# Altium footprint library MCU.PcbLib: 7 footprints
Each footprint in its own frame and in the unit in brackets; x right, y up, seen from the top. Pads: shape width x height; smd on the part's side, far side on the other; paste and mask are expansions set on the pad; w line width, h text height; cw(c..) or ccw(c..) is an arc to the next point about the centre after c.
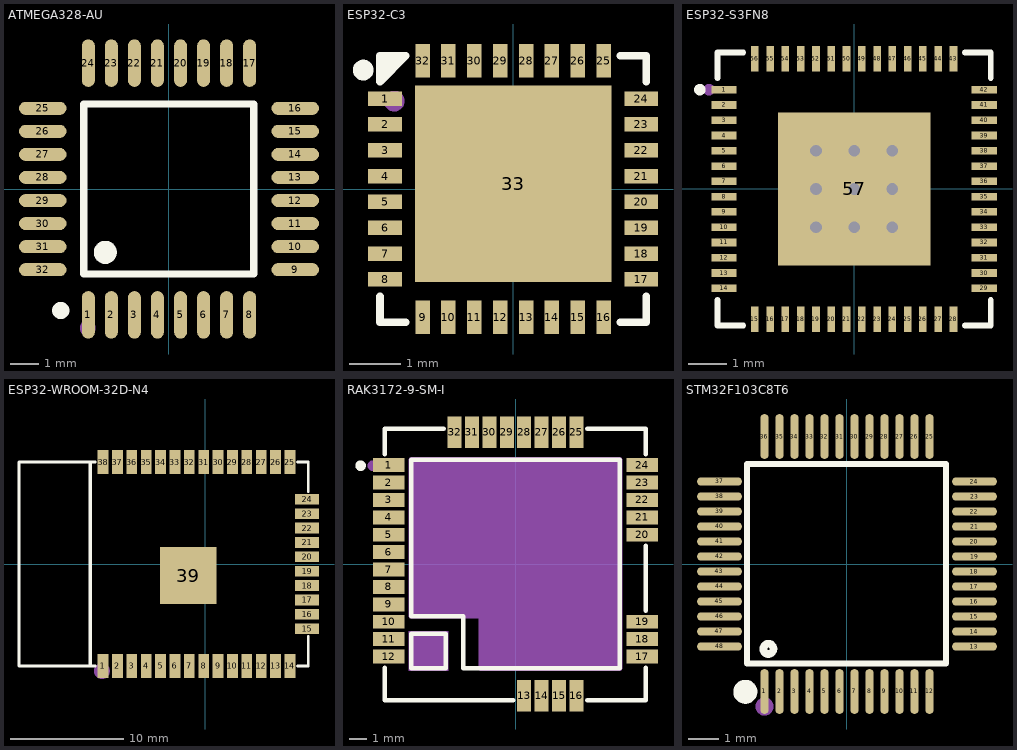
[diagram p0: the footprints below, top view; thin cyan lines are the x and y axes]

## ATMEGA328-AU [mm]
pads (32):
  oval 0.45x1.65 smd paste+0 mask+0.051: 1(-2.8,-4.369) 2(-2,-4.369) 3(-1.2,-4.369) 4(-0.4,-4.369) 5(0.4,-4.369) 6(1.2,-4.369) 7(2,-4.369) 8(2.8,-4.369) 17(2.8,4.369) 18(2,4.369) 19(1.2,4.369) 20(0.4,4.369) 21(-0.4,4.369) 22(-1.2,4.369) 23(-2,4.369) 24(-2.8,4.369)
  oval 1.65x0.45 smd paste+0 mask+0.051: 9(4.382,-2.8) 10(4.382,-2) 11(4.382,-1.2) 12(4.382,-0.4) 13(4.382,0.4) 14(4.382,1.2) 15(4.382,2) 16(4.382,2.8) 25(-4.381,2.8) 26(-4.381,2) 27(-4.381,1.2) 28(-4.381,0.4) 29(-4.381,-0.4) 30(-4.381,-1.2) 31(-4.381,-2) 32(-4.381,-2.8)
Top Overlay:
  lines w0.254: -2.963,-2.95 2.937,-2.95 2.937,2.95 -2.963,2.95 -2.963,-2.95
  lines w0.3: -3.759,-4.064 ccw(c-3.758,-4.214) -3.757,-4.064
  lines w0.4: -2.212,-1.999 ccw(c-2.211,-2.199) -2.21,-1.999
Mechanical 15:
  circle w0.254: c-2.819,-4.826 r0.127
  lines w0.254: -2.967,-4.826 ccw(c-2.819,-4.826) -2.671,-4.826 ccw(c-2.819,-4.826) -2.967,-4.826
3D body "CQFP80P900X900X120-32M.step": height 1.05, standoff 0, extent -4.5,-4.5 4.5,4.5

## ES8388 [mm] "Low Power Stereo Audio CODEC With Headphone Amplifier"

## ESP32-C3 [mm]
pads (33):
  rect 0.65x0.28 smd paste-100 mask+0.051: 1(-2.478,1.75) 2(-2.478,1.25) 3(-2.478,0.75) 4(-2.478,0.25) 5(-2.478,-0.25) 6(-2.478,-0.75) 7(-2.478,-1.25) 8(-2.478,-1.75) 17(2.478,-1.75) 18(2.478,-1.25) 19(2.478,-0.75) 20(2.478,-0.25) 21(2.478,0.25) 22(2.478,0.75) 23(2.478,1.25) 24(2.478,1.75)
  rect 0.28x0.65 smd paste-100 mask+0.051: 9(-1.75,-2.478) 10(-1.25,-2.478) 11(-0.75,-2.478) 12(-0.25,-2.478) 13(0.25,-2.478) 14(0.75,-2.478) 15(1.25,-2.478) 16(1.75,-2.478) 25(1.75,2.478) 26(1.25,2.478) 27(0.75,2.478) 28(0.25,2.478) 29(-0.25,2.478) 30(-0.75,2.478) 31(-1.25,2.478) 32(-1.75,2.478)
  rect 3.8x3.8 smd paste-100 mask+0.051: 33(0,0.102)
Top Overlay:
  circle w0.2: c-2.9,2.3 r0.1
  region: -2.1,2.576 -2.1,2.557 -2.576,2.08 -2.576,2.5
  lines w0.152: -2.576,-2.08 -2.576,-2.576 -2.08,-2.576 ; 2.08,-2.576 2.576,-2.576 2.576,-2.08 ; 2.08,2.576 2.576,2.576 2.576,2.08 ; -2.576,2.08 -2.576,2.576 -2.08,2.576 -2.576,2.08
Top Paste:
  region: -1.89,2.802 -1.61,2.802 -1.61,2.152 -1.89,2.152
  region: -1.39,2.802 -1.11,2.802 -1.11,2.152 -1.39,2.152
  region: -0.89,2.802 -0.61,2.802 -0.61,2.152 -0.89,2.152
  region: -0.39,2.802 -0.11,2.802 -0.11,2.152 -0.39,2.152
  region: 0.11,2.802 0.39,2.802 0.39,2.152 0.11,2.152
  region: 0.61,2.802 0.89,2.802 0.89,2.152 0.61,2.152
  region: 1.11,2.802 1.39,2.802 1.39,2.152 1.11,2.152
  region: 1.61,2.802 1.89,2.802 1.89,2.152 1.61,2.152
  region: 2.152,1.89 2.802,1.89 2.802,1.61 2.152,1.61
  region: 2.152,1.39 2.802,1.39 2.802,1.11 2.152,1.11
  region: 2.152,0.89 2.802,0.89 2.802,0.61 2.152,0.61
  region: 2.152,0.39 2.802,0.39 2.802,0.11 2.152,0.11
  region: 2.152,-0.11 2.802,-0.11 2.802,-0.39 2.152,-0.39
  region: 2.152,-0.61 2.802,-0.61 2.802,-0.89 2.152,-0.89
  region: 2.152,-1.11 2.802,-1.11 2.802,-1.39 2.152,-1.39
  region: 2.152,-1.61 2.802,-1.61 2.802,-1.89 2.152,-1.89
  region: 1.61,-2.152 1.89,-2.152 1.89,-2.802 1.61,-2.802
  region: 1.11,-2.152 1.39,-2.152 1.39,-2.802 1.11,-2.802
  region: 0.61,-2.152 0.89,-2.152 0.89,-2.802 0.61,-2.802
  region: 0.11,-2.152 0.39,-2.152 0.39,-2.802 0.11,-2.802
  region: -0.39,-2.152 -0.11,-2.152 -0.11,-2.802 -0.39,-2.802
  region: -0.89,-2.152 -0.61,-2.152 -0.61,-2.802 -0.89,-2.802
  region: -1.39,-2.152 -1.11,-2.152 -1.11,-2.802 -1.39,-2.802
  region: -1.89,-2.152 -1.61,-2.152 -1.61,-2.802 -1.89,-2.802
  region: -2.802,-1.61 -2.152,-1.61 -2.152,-1.89 -2.802,-1.89
  region: -2.802,-1.11 -2.152,-1.11 -2.152,-1.39 -2.802,-1.39
  region: -2.802,-0.61 -2.152,-0.61 -2.152,-0.89 -2.802,-0.89
  region: -2.802,-0.11 -2.152,-0.11 -2.152,-0.39 -2.802,-0.39
  region: -2.802,0.39 -2.152,0.39 -2.152,0.11 -2.802,0.11
  region: -2.802,0.89 -2.152,0.89 -2.152,0.61 -2.802,0.61
  region: -2.802,1.39 -2.152,1.39 -2.152,1.11 -2.802,1.11
  region: -2.802,1.89 -2.152,1.89 -2.152,1.61 -2.802,1.61
  region: -1.52,1.52 1.52,1.52 1.52,-1.52 -1.52,-1.52
Mechanical 15:
  circle w0.2: c-2.3,1.7 r0.1
3D body "QFN32 5x5.step": height 1.06, standoff 0, extent -2.51,-2.51 2.51,2.51

## ESP32-S3FN8 [mm]
pads (57):
  rect 0.665x0.2 smd paste-100 mask+0.051: 1(-3.408,2.6) 2(-3.408,2.2) 3(-3.408,1.8) 4(-3.408,1.4) 5(-3.408,1) 6(-3.408,0.6) 7(-3.408,0.2) 8(-3.408,-0.2) 9(-3.408,-0.6) 10(-3.408,-1) 11(-3.408,-1.4) 12(-3.408,-1.8) 13(-3.408,-2.2) 14(-3.408,-2.6) 29(3.408,-2.6) 30(3.408,-2.2) 31(3.408,-1.8) 32(3.408,-1.4) 33(3.408,-1) 34(3.408,-0.6) 35(3.408,-0.2) 36(3.408,0.2) 37(3.408,0.6) 38(3.408,1) 39(3.408,1.4) 40(3.408,1.8) 41(3.408,2.2) 42(3.408,2.6)
  rect 0.2x0.665 smd paste-100 mask+0.051: 15(-2.6,-3.408) 16(-2.2,-3.408) 17(-1.8,-3.408) 18(-1.4,-3.408) 19(-1,-3.408) 20(-0.6,-3.408) 21(-0.2,-3.408) 22(0.2,-3.408) 23(0.6,-3.408) 24(1,-3.408) 25(1.4,-3.408) 26(1.8,-3.408) 27(2.2,-3.408) 28(2.6,-3.408) 43(2.6,3.408) 44(2.2,3.408) 45(1.8,3.408) 46(1.4,3.408) 47(1,3.408) 48(0.6,3.408) 49(0.2,3.408) 50(-0.2,3.408) 51(-0.6,3.408) 52(-1,3.408) 53(-1.4,3.408) 54(-1.8,3.408) 55(-2.2,3.408) 56(-2.6,3.408)
  rect 4x4 smd paste-100 mask+0.051: 57(0,0)
via 0,1 diameter 0.61 hole 0.305
via 0.001,-1 diameter 0.61 hole 0.305
via 0,0 diameter 0.61 hole 0.305
via -1,-1 diameter 0.61 hole 0.305
via 1,-1 diameter 0.61 hole 0.305
via -1,1 diameter 0.61 hole 0.305
via -1,0 diameter 0.61 hole 0.305
via 1,1 diameter 0.61 hole 0.305
via 1,0 diameter 0.61 hole 0.305
Top Overlay:
  circle w0.15: c-4.04,2.6 r0.075
  lines w0.152: -3.576,-2.903 -3.576,-3.576 -2.903,-3.576 ; -3.576,2.903 -3.576,3.576 -2.903,3.576 ; 2.903,-3.576 3.576,-3.576 3.576,-2.903 ; 2.903,3.576 3.576,3.576 3.576,2.903
Top Paste:
  drawing of 57 lines, arcs and shapes, not listed
Mechanical 15:
  circle w0.15: c-3.8,2.6 r0.075
3D body "ESP32-S3FN8--3DModel-STEP-56544.STEP": height 0.9, standoff 0, extent -3.495,-3.5 3.505,3.5

## ESP32-WROOM-32D-N4 [mm]
pads (39):
  rect 0.95x2.1 smd paste+0 mask+0.051: 1(-9.015,-9) 2(-7.745,-9) 3(-6.475,-9) 4(-5.205,-9) 5(-3.935,-9) 6(-2.665,-9) 7(-1.395,-9) 8(-0.125,-9) 9(1.145,-9) 10(2.415,-9) 11(3.685,-9) 12(4.955,-9) 13(6.225,-9) 14(7.495,-9) 25(7.495,9) 26(6.225,9) 27(4.955,9) 28(3.685,9) 29(2.415,9) 30(1.145,9) 31(-0.125,9) 32(-1.395,9) 33(-2.665,9) 34(-3.935,9) 35(-5.205,9) 36(-6.475,9) 37(-7.745,9) 38(-9.015,9)
  rect 2.1x0.95 smd paste+0 mask+0.051: 15(9.015,-5.715) 16(9.015,-4.445) 17(9.015,-3.175) 18(9.015,-1.905) 19(9.015,-0.635) 20(9.015,0.635) 21(9.015,1.905) 22(9.015,3.175) 23(9.015,4.445) 24(9.015,5.715)
  rect 5x5 smd paste+0 mask+0.051: 39(-1.472,-1.017)
Top Overlay:
  lines w0.254: -9.696,-9.017 -10.158,-9.017 -10.158,9.017 -9.696,9.017 ; 8.176,-9.017 9.121,-9.017 9.121,-6.396 ; 8.176,9.017 9.121,9.017 9.121,6.396 ; -16.435,-9 -16.435,9 -10.135,9 -10.135,-9 -16.435,-9
Mechanical 15:
  circle w0.7: c-9.114,-9.45 r0.35
3D body "esp32_wroom_32D_module.step": height 3.9, standoff 0, extent -16.483,-9.05 9.067,9.05

## RAK3172-9-SM-I [mm]
pads (32):
  rect 1.8x0.8 smd paste+0 mask+0.051: 1(-7.287,5.68) 2(-7.287,4.68) 3(-7.287,3.68) 4(-7.287,2.68) 5(-7.287,1.68) 6(-7.287,0.68) 7(-7.287,-0.32) 8(-7.287,-1.32) 9(-7.287,-2.32) 10(-7.287,-3.32) 11(-7.287,-4.32) 12(-7.287,-5.32) 17(7.287,-5.32) 18(7.287,-4.32) 19(7.287,-3.32) 20(7.287,1.68) 21(7.287,2.68) 22(7.287,3.68) 23(7.287,4.68) 24(7.287,5.68)
  rect 0.8x1.8 smd paste+0 mask+0.051: 13(0.5,-7.569) 14(1.5,-7.569) 15(2.5,-7.569) 16(3.5,-7.569) 25(3.5,7.569) 26(2.5,7.569) 27(1.5,7.569) 28(0.5,7.569) 29(-0.5,7.569) 30(-1.5,7.569) 31(-2.5,7.569) 32(-3.5,7.569)
Top Overlay:
  circle w0.3: c-8.9,5.65 r0.15
  lines w0.254: -7.512,-5.951 -7.512,-7.82 -0.131,-7.82 ; -7.512,6.311 -7.512,7.78 -4.131,7.78 ; 4.131,-7.82 7.488,-7.82 7.488,-5.951 ; 4.131,7.78 7.488,7.78 7.488,6.311 ; 7.488,-2.689 7.488,1.049 ; -6,-6 -4,-6 -4,-4 -6,-4 -6,-6 ; -5.999,-2.999 -3,-2.999 -3,-6.001 5.999,-6.001 5.999,6 -5.999,6 -5.999,5 -5.999,-2.999
Mechanical 15:
  circle w0.3: c-8.2,5.65 r0.15
  region: 6.126,-6.001 6.126,-6.026 6.107,-6.073 6.071,-6.109 6.025,-6.128 5.999,-6.128 -1.999,-6.128 -2.024,-6.128 -2.071,-6.109 -2.107,-6.073 -2.126,-6.026 -2.126,-6.001 -2.126,-3.126 -5.999,-3.126 -6.025,-3.126 -6.071,-3.106 -6.107,-3.071 -6.126,-3.024 -6.126,-2.999 -6.126,6 -6.126,6.026 -6.107,6.072 -6.071,6.108 -6.025,6.127 -5.999,6.127 5.999,6.127 6.025,6.127 6.071,6.108 6.107,6.072 6.126,6.026 6.126,6
  region: -6.127,-6.127 -3.873,-6.127 -3.873,-3.873 -6.127,-3.873
3D body "RAK3172.step": height 3.51, standoff -0.02, extent -7.497,-7.821 7.493,7.669

## STM32F103C8T6 [mm]
pads (48):
  oval 0.27x1.5 smd paste+0 mask+0.05: 1(-2.75,-4.25) 2(-2.25,-4.25) 3(-1.75,-4.25) 4(-1.25,-4.25) 5(-0.75,-4.25) 6(-0.25,-4.25) 7(0.25,-4.25) 8(0.75,-4.25) 9(1.25,-4.25) 10(1.75,-4.25) 11(2.25,-4.25) 12(2.75,-4.25) 25(2.75,4.25) 26(2.25,4.25) 27(1.75,4.25) 28(1.25,4.25) 29(0.75,4.25) 30(0.25,4.25) 31(-0.25,4.25) 32(-0.75,4.25) 33(-1.25,4.25) 34(-1.75,4.25) 35(-2.25,4.25) 36(-2.75,4.25)
  oval 1.5x0.27 smd paste+0 mask+0.05: 13(4.25,-2.75) 14(4.25,-2.25) 15(4.25,-1.75) 16(4.25,-1.25) 17(4.25,-0.75) 18(4.25,-0.25) 19(4.25,0.25) 20(4.25,0.75) 21(4.25,1.25) 22(4.25,1.75) 23(4.25,2.25) 24(4.25,2.75) 37(-4.25,2.75) 38(-4.25,2.25) 39(-4.25,1.75) 40(-4.25,1.25) 41(-4.25,0.75) 42(-4.25,0.25) 43(-4.25,-0.25) 44(-4.25,-0.75) 45(-4.25,-1.25) 46(-4.25,-1.75) 47(-4.25,-2.25) 48(-4.25,-2.75)
Top Overlay:
  circle w0.254: c-2.62,-2.83 r0.17
  lines w0.2: -2.896,3.34 3.302,3.34 3.302,-3.315 -3.327,-3.315 -3.327,3.34 -2.565,3.34
  lines w0.4: -3.39,-4.06 ccw(c-3.389,-4.26) -3.387,-4.06
Mechanical 15:
  circle w0.3: c-2.75,-4.75 r0.15
3D body "step_temp.STEP": height 1.6, standoff 0, extent -4.5,-4.525 4.5,4.475